# EAGLE library part TPS7A45* (library NewSDR)
Texas Instruments Low-Noise Fast-Transient-Response 1.5A LDO Voltage Regulator
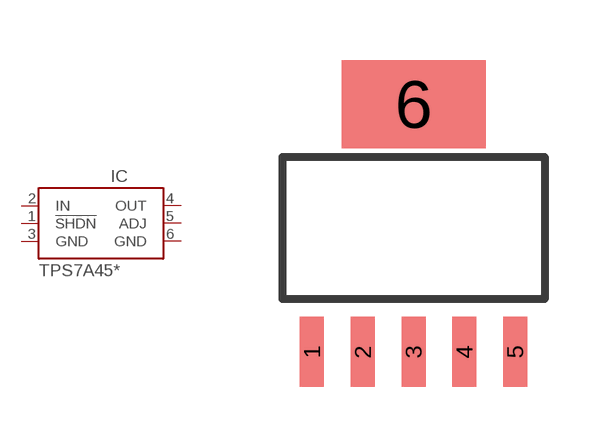
[diagram p164: symbol with the pads of SOT-223-5; footprint SOT-223-5]

Designator prefix IC

## TPS7A4501DCQ, TPS7A4515DCQ, TPS7A4518DCQ, TPS7A4525DCQ, TPS7A4533DCQ  [SOT-223-5]
1  !SHDN  in
2  IN  pwr
3  GND  pwr
4  OUT  pwr
5  ADJ  pas
6  GND  pwr

## Footprint SOT-223-5 (pad centres in mm)
SOT-223-5
smd 0.6 x 1.75: 1 -2.54,-3.099; 2 -1.27,-3.099; 3 0,-3.099; 4 1.27,-3.099; 5 2.54,-3.099
smd 3.6 x 2.2: 6 0,3.099